# Altium footprint library PcbLib1.PcbLib: 33 footprints (part 1 of 3)
Each footprint in its own frame and in the unit in brackets; x right, y up, seen from the top. Pads: shape width x height; smd on the part's side, far side on the other; paste and mask are expansions set on the pad; w line width, h text height; cw(c..) or ccw(c..) is an arc to the next point about the centre after c.
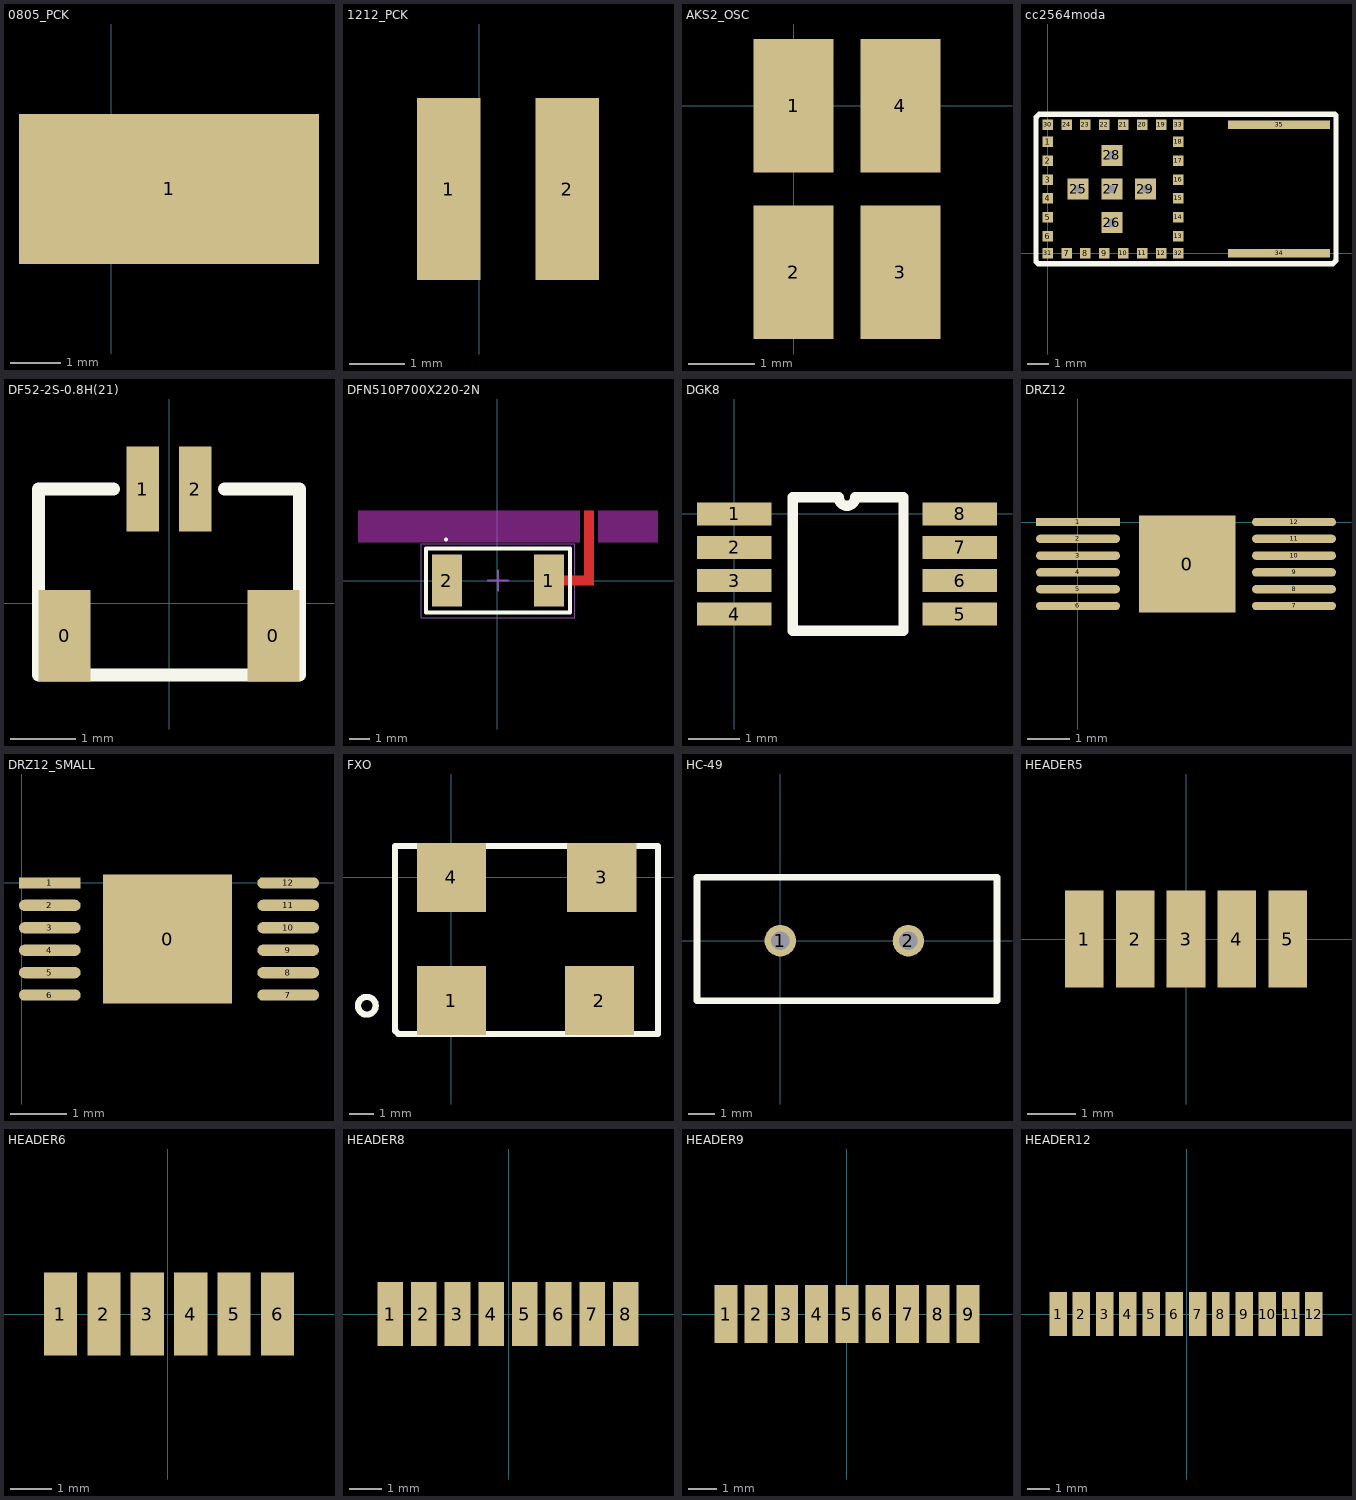
[diagram p0: the footprints below, top view; thin cyan lines are the x and y axes]

## 0805_PCK [mm]
pads (1):
  rect 6x3 smd: 1(1.15,5.2)

## 1212_PCK [mm]
pads (2):
  rect 1.15x3.3 smd: 1(-0.55,8.6) 2(1.6,8.6)

## AKS2_OSC [mm]
pads (4):
  rect 1.2x2 smd: 1(0,0) 2(0,-2.5) 3(1.6,-2.5) 4(1.6,0)

## cc2564moda [mm]
pads (35):
  rect 0.5x0.5 smd mask+0.07: 1(0,5.3) 2(0,4.4) 3(0,3.5) 4(0,2.6) 5(0,1.7) 6(0,0.8) 7(0.9,0) 8(1.8,0) 9(2.7,0) 10(3.6,0) 11(4.5,0) 12(5.4,0) 13(6.2,0.8) 14(6.2,1.7) 15(6.2,2.6) 16(6.2,3.5) 17(6.2,4.4) 18(6.2,5.3) 19(5.4,6.1) 20(4.5,6.1) 21(3.6,6.1) 22(2.7,6.1) 23(1.8,6.1) 24(0.9,6.1) 30(0,6.1) 31(0,0) 32(6.2,0) 33(6.2,6.1)
  rect 1x1 hole 0.4 mask+0.07: 25(1.45,3.05) 26(3.05,1.45) 27(3.05,3.05) 28(3.05,4.65) 29(4.65,3.05)
  rect 4.85x0.4 smd mask+0.07: 34(11,0) 35(11,6.1)
Top Overlay:
  lines w0.254: -0.55,-0.4 -0.55,6.45 -0.4,6.6 13.65,6.6 13.7,6.55 13.7,-0.35 13.55,-0.5 -0.45,-0.5 -0.55,-0.4

## DF52-2S-0.8H(21) [mm]
pads (4):
  rect 0.8x1.4 smd: 0(-1.6,-0.5) 0(1.6,-0.5)
  rect 0.5x1.3 smd: 1(-0.4,1.75) 2(0.4,1.75)
Top Overlay:
  lines w0.2: -2,-1.1 -2,1.75 -0.85,1.75 ; -1.95,-1.1 2,-1.1 2,1.75 0.85,1.75
3D body "DF52-2S-0.8H.stp": height 1.66, standoff -0.09, extent -1.9,-1.05 1.9,1.72

## DFN510P700X220-2N [mm]
pads (2):
  rect 1.5x2.6 smd: 1(2.575,0) 2(-2.525,0)
Top Layer:
  rectangle: 3.275,-0.25 4.825,0.25
  rectangle: 4.325,-0.225 4.825,3.5
Top Overlay:
  circle w0.1: c-2.575,2.05 r0.05
  lines w0.2: -3.575,-1.6 3.625,-1.6 3.625,1.6 -3.575,1.6 -3.575,-1.6
Keep-Out Layer:
  rectangle: -6.975,1.9 4.125,3.5
  rectangle: 5.025,1.9 8.025,3.5
Mechanical 13:
  lines w0.1: -3.575,-1.6 -3.575,1.6 3.625,1.6 3.625,-1.6 -3.575,-1.6
Mechanical 15:
  lines w0.05: -3.825,-1.85 -3.825,1.85 3.875,1.85 3.875,-1.85 -3.825,-1.85
  lines w0.1: -0.475,0 0.525,0 ; 0.025,-0.5 0.025,0.5
3D body: height 2.2, standoff 0, extent -3.575,-1.6 3.625,1.6

## DGK8 [mm]
pads (8):
  rect 1.45x0.45 smd mask+0.05: 1(0,0) 2(0,-0.65) 3(0,-1.3) 4(0,-1.95) 5(4.4,-1.95) 6(4.4,-1.3) 7(4.4,-0.65) 8(4.4,0)
Top Overlay:
  lines w0.2: 1.143,-2.275 3.302,-2.275 3.302,0.325 2.362,0.325 cw(c2.2,0.325) 2.037,0.325 1.143,0.325 1.143,-2.275

## DRZ12 [mm]
pads (13):
  rect 2.3x2.3 smd: 0(2.6,-1)
  rect 2x0.2 smd: 1(0,0)
  oval 2x0.2 smd: 2(0,-0.4) 3(0,-0.8) 4(0,-1.2) 5(0,-1.6) 6(0,-2) 7(5.15,-2) 8(5.15,-1.6) 9(5.15,-1.2) 10(5.15,-0.8) 11(5.15,-0.4) 12(5.15,0)

## DRZ12_SMALL [mm]
pads (13):
  rect 2.3x2.3 smd: 0(2.6,-1)
  rect 1.1x0.2 smd: 1(0.5,0)
  oval 1.1x0.2 smd: 2(0.5,-0.4) 3(0.5,-0.8) 4(0.5,-1.2) 5(0.5,-1.6) 6(0.5,-2) 7(4.75,-2) 8(4.75,-1.6) 9(4.75,-1.2) 10(4.75,-0.8) 11(4.75,-0.4) 12(4.75,0)

## FXO [mm] "FXO Crystal Oscillator"
pads (4):
  rect 2.8x2.8 smd mask+0.05: 1(0,-5) 2(6,-5) 3(6.1,0) 4(0,0)
Top Overlay:
  circle w0.254: c-3.429,-5.207 r0.359
  lines w0.254: -2.286,-6.223 -2.159,-6.35 8.382,-6.35 8.382,1.27 -2.286,1.27 -2.286,-6.223

## HC-49 [mm]
pads (2):
  round 1.2 hole 0.7: 1(0,0) 2(4.88,0)
Top Overlay:
  lines w0.254: -3.175,-2.286 8.255,-2.286 8.255,2.413 -3.175,2.413 -3.175,-2.286

## HEADER5 [mm]
pads (5):
  rect 0.8x2 smd: 1(-2.1,0) 2(-1.05,0) 3(0,0) 4(1.05,0) 5(2.1,0)

## HEADER6 [mm]
pads (6):
  rect 0.8x2 smd: 1(-2.6,0) 2(-1.55,0) 3(-0.5,0) 4(0.55,0) 5(1.6,0) 6(2.65,0)

## HEADER8 [mm]
pads (8):
  rect 0.8x2 smd: 1(-3.7,0) 2(-2.65,0) 3(-1.6,0) 4(-0.55,0) 5(0.5,0) 6(1.55,0) 7(2.6,0) 8(3.65,0)

## HEADER9 [mm]
pads (9):
  rect 0.8x2 smd: 1(-4.2,0) 2(-3.15,0) 3(-2.1,0) 4(-1.05,0) 5(0,0) 6(1.05,0) 7(2.1,0) 8(3.15,0) 9(4.2,0)

## HEADER12 [mm]
pads (12):
  rect 0.8x2 smd: 1(-5.8,0) 2(-4.75,0) 3(-3.7,0) 4(-2.65,0) 5(-1.6,0) 6(-0.55,0) 7(0.5,0) 8(1.55,0) 9(2.6,0) 10(3.65,0) 11(4.7,0) 12(5.75,0)